# Altium footprint library SIP.PcbLib: 2 footprints
Each footprint in its own frame and in the unit in brackets; x right, y up, seen from the top. Pads: shape width x height; smd on the part's side, far side on the other; paste and mask are expansions set on the pad; w line width, h text height; cw(c..) or ccw(c..) is an arc to the next point about the centre after c.
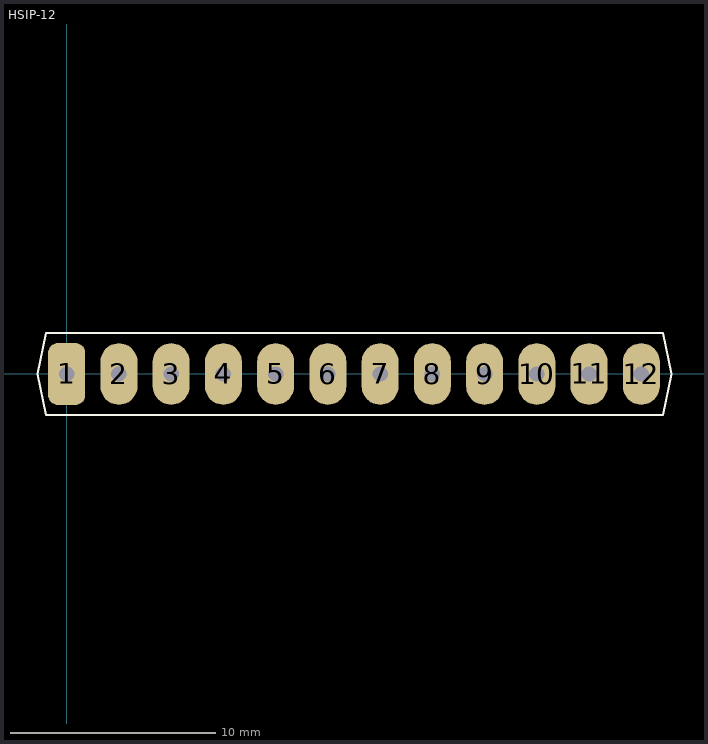
[diagram p0: the footprints below, top view; thin cyan lines are the x and y axes]

## HSIP-12 [mm]
pads (12):
  rrect50% 1.8x3 hole 0.75: 1(0,0)
  oval 1.8x3 hole 0.75: 2(2.54,0) 3(5.08,0) 4(7.62,0) 5(10.16,0) 6(12.7,0) 7(15.24,0) 8(17.78,0) 9(20.32,0) 10(22.86,0) 11(25.4,0) 12(27.94,0)
Top Overlay:
  lines w0.1: -1.415,0 -1,2 29,2 29.415,0 29,-2 -1,-2 -1.415,0
3D body "User Library-Apex_EU_Package.step": height 22.53, standoff -7.7, extent -1.168,-1.727 29.058,2.769

## Maxim [mm]